# Altium integrated library Microchip Thermal Management.IntLib: 360 symbols (part 1 of 10)
Pins are listed as number, name and electrical type; pins without a type are passive.

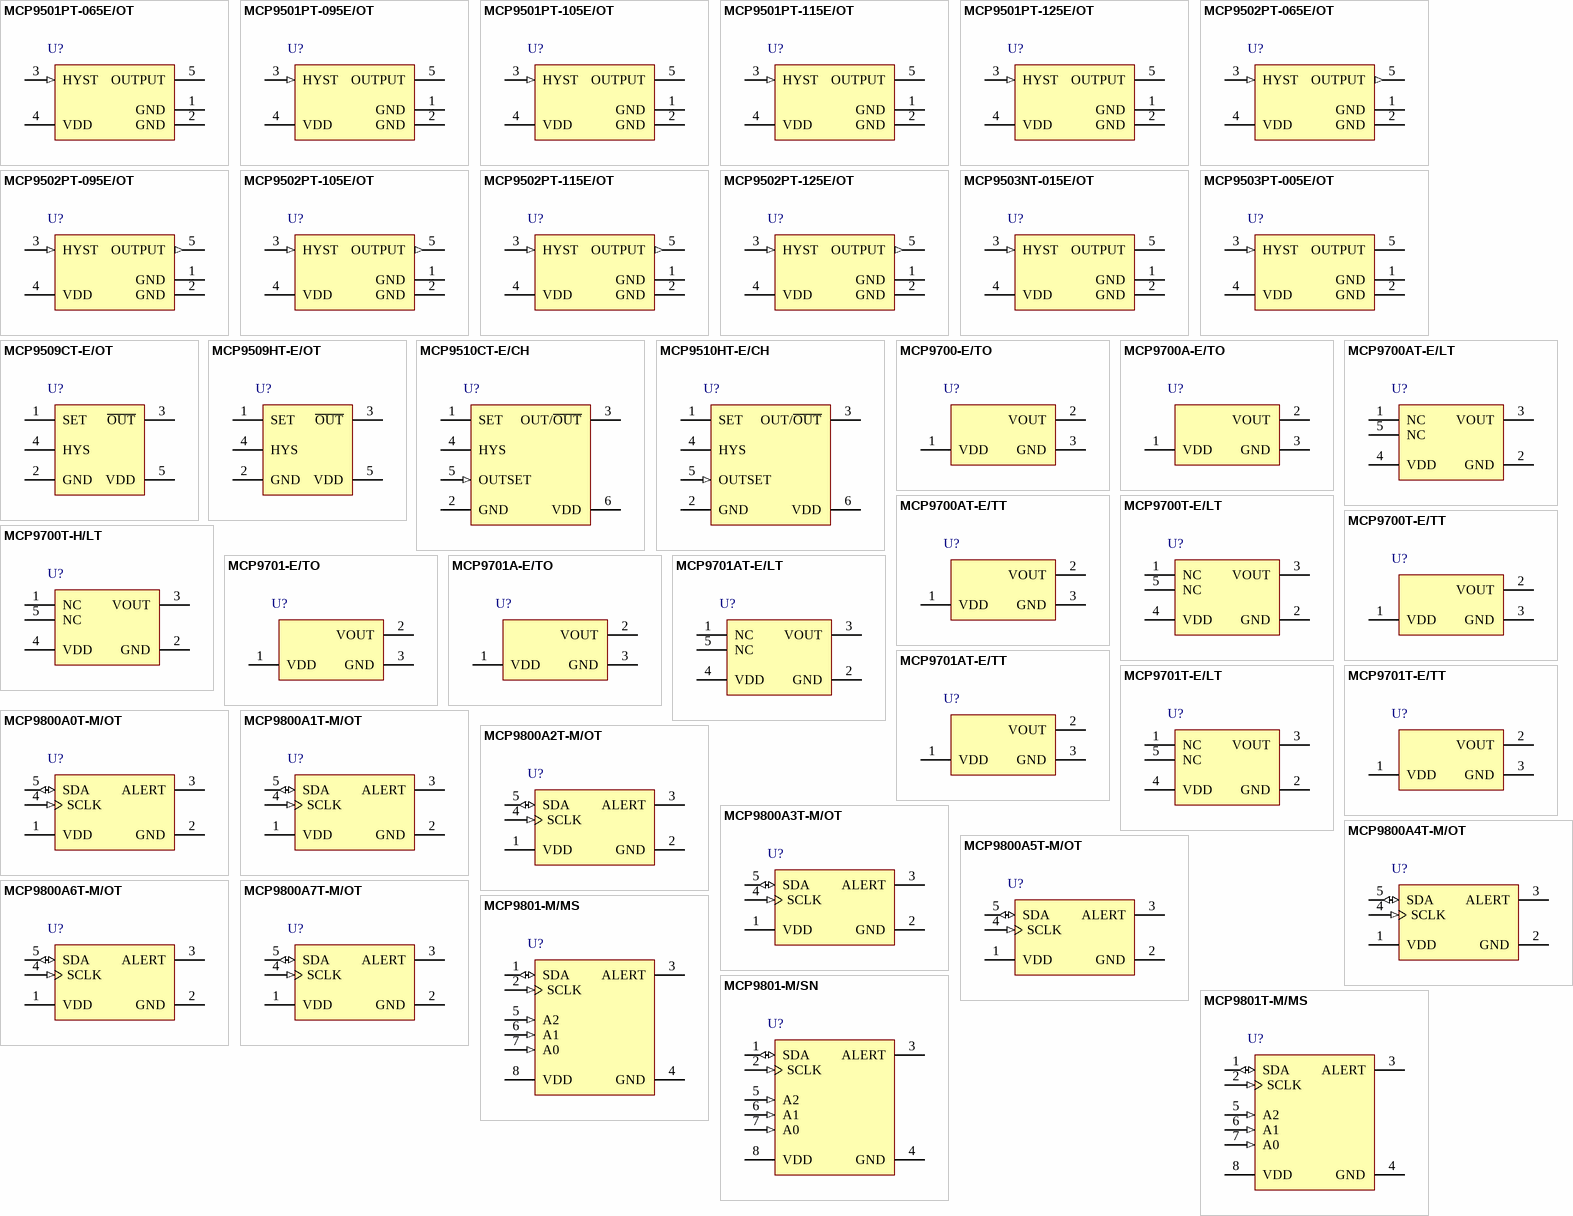
[diagram p0: symbols MCP9501PT-065E/OT to MCP9801T-M/MS]

## MCP9501PT-065E/OT
designator U?
Temperature Switch with Selectable Hysteresis, 1 deg Typical Accuracy, 2.7 to 5.5 V Operating Voltage, -40 to 125 degC, 5-pin SOT-23 (OT5), Tape and Reel; Manufacturer: Microchip; PartNumber: MCP9501PT-065E/OT; DatasheetVersion: Rev. A; PackageVersion: C04-091B; PackageReference: SOT-23-OT5; PackageDescription: 5-Lead Plastic Small Outline Transistor, 2.9 x 1.55 mm Body, 0.95 mm Pitch; Supplier 1: Digi-Key; Supplier Part Number 1: MCP9501PT-065E/OTTR-ND; Supplier 2: Digi-Key; Supplier Part Number 2: MCP9501PT-065E/OTCT-ND; Supplier 3: Digi-Key; Supplier Part Number 3: MCP9501PT-065E/OTDKR-ND; Supplier 4: Farnell; Supplier Part Number 4: 1925058; Supplier 5: Farnell; Supplier Part Number 5: 1925058RL; Supplier 6: Newark; Supplier Part Number 6: 91R2892; Supplier 7: Mouser; Supplier Part Number 7: 579-MCP9501PT065E/OT; Mounting Technology: Surface Mount; ComponentLink1Description: Manufacturer URL; ComponentLink1URL: http://www.microchip.com; ComponentLink2Description: Datasheet; ComponentLink2URL: http://ww1.microchip.com/downloads/en/DeviceDoc/22268a.pdf; ComponentLink3Description: Package Specification; ComponentLink3URL: http://www.microchip.com/stellent/groups/techpub_sg/documents/packagingspec/en012702.pdf; ComponentLink4Description: Product URL; ComponentLink4URL: http://www.microchip.com/MCP9501
footprint MCHP-SOT-23-OT5_N (SOT23, 5-Leads, Body 2.9x1.55mm, Pitch 0.95mm, IPC Medium Density)
footprint MCHP-SOT-23-OT5_L (SOT23, 5-Leads, Body 2.9x1.55mm, Pitch 0.95mm, IPC High Density)
footprint MCHP-SOT-23-OT5_M (SOT23, 5-Leads, Body 2.9x1.55mm, Pitch 0.95mm, IPC Low Density)
pins: 1 GND (power) "Ground", 2 GND (power) "Ground (must be connected to ground)", 3 HYST (in) "Hysteresis Selection Input: HYST = GND ? Hysteresis is 2degreesC (typical) HYST = VDD ? Hysteresis is 10degreesC (typical)", 4 VDD (power) "Power pin", 5 OUTPUT (oc) "Output Options:Open-Drain, Active-Low Output"

## MCP9501PT-095E/OT
designator U?
Temperature Switch with Selectable Hysteresis, 1 deg Typical Accuracy, 2.7 to 5.5 V Operating Voltage, -40 to 125 degC, 5-pin SOT-23 (OT5), Tape and Reel; Manufacturer: Microchip; PartNumber: MCP9501PT-095E/OT; DatasheetVersion: Rev. A; PackageVersion: C04-091B; PackageReference: SOT-23-OT5; PackageDescription: 5-Lead Plastic Small Outline Transistor, 2.9 x 1.55 mm Body, 0.95 mm Pitch; Supplier 1: Digi-Key; Supplier Part Number 1: MCP9501PT-095E/OTTR-ND; Supplier 2: Digi-Key; Supplier Part Number 2: MCP9501PT-095E/OTCT-ND; Supplier 3: Digi-Key; Supplier Part Number 3: MCP9501PT-095E/OTDKR-ND; Supplier 4: Farnell; Supplier Part Number 4: 1925059RL; Supplier 5: Farnell; Supplier Part Number 5: 1925059; Supplier 6: Newark; Supplier Part Number 6: 91R2893; Supplier 7: Mouser; Supplier Part Number 7: 579-MCP9501PT095E/OT; Mounting Technology: Surface Mount; ComponentLink1Description: Manufacturer URL; ComponentLink1URL: http://www.microchip.com; ComponentLink2Description: Datasheet; ComponentLink2URL: http://ww1.microchip.com/downloads/en/DeviceDoc/22268a.pdf; ComponentLink3Description: Package Specification; ComponentLink3URL: http://www.microchip.com/stellent/groups/techpub_sg/documents/packagingspec/en012702.pdf; ComponentLink4Description: Product URL; ComponentLink4URL: http://www.microchip.com/MCP9501
footprint MCHP-SOT-23-OT5_N (SOT23, 5-Leads, Body 2.9x1.55mm, Pitch 0.95mm, IPC Medium Density)
footprint MCHP-SOT-23-OT5_L (SOT23, 5-Leads, Body 2.9x1.55mm, Pitch 0.95mm, IPC High Density)
footprint MCHP-SOT-23-OT5_M (SOT23, 5-Leads, Body 2.9x1.55mm, Pitch 0.95mm, IPC Low Density)
pins: 1 GND (power) "Ground", 2 GND (power) "Ground (must be connected to ground)", 3 HYST (in) "Hysteresis Selection Input: HYST = GND ? Hysteresis is 2degreesC (typical) HYST = VDD ? Hysteresis is 10degreesC (typical)", 4 VDD (power) "Power pin", 5 OUTPUT (oc) "Output Options:Open-Drain, Active-Low Output"

## MCP9501PT-105E/OT
designator U?
Temperature Switch with Selectable Hysteresis, 1 deg Typical Accuracy, 2.7 to 5.5 V Operating Voltage, -40 to 125 degC, 5-pin SOT-23 (OT5), Tape and Reel; Manufacturer: Microchip; PartNumber: MCP9501PT-105E/OT; DatasheetVersion: Rev. A; PackageVersion: C04-091B; PackageReference: SOT-23-OT5; PackageDescription: 5-Lead Plastic Small Outline Transistor, 2.9 x 1.55 mm Body, 0.95 mm Pitch; Supplier 1: Digi-Key; Supplier Part Number 1: MCP9501PT-105E/OTTR-ND; Supplier 2: Digi-Key; Supplier Part Number 2: MCP9501PT-105E/OTCT-ND; Supplier 3: Digi-Key; Supplier Part Number 3: MCP9501PT-105E/OTDKR-ND; Supplier 4: Farnell; Supplier Part Number 4: 1925060; Supplier 5: Farnell; Supplier Part Number 5: 1925060RL; Supplier 6: Farnell; Supplier Part Number 6: 1902956; Supplier 7: Newark; Supplier Part Number 7: 91R2894; Supplier 8: Mouser; Supplier Part Number 8: 579-MCP9501PT105E/OT; Mounting Technology: Surface Mount; ComponentLink1Description: Manufacturer URL; ComponentLink1URL: http://www.microchip.com; ComponentLink2Description: Datasheet; ComponentLink2URL: http://ww1.microchip.com/downloads/en/DeviceDoc/22268a_Final.pdf; ComponentLink3Description: Package Specification; ComponentLink3URL: http://www.microchip.com/stellent/groups/techpub_sg/documents/packagingspec/en012702.pdf; ComponentLink4Description: Product URL; ComponentLink4URL: http://www.microchip.com/MCP9501
footprint MCHP-SOT-23-OT5_N (SOT23, 5-Leads, Body 2.9x1.55mm, Pitch 0.95mm, IPC Medium Density)
footprint MCHP-SOT-23-OT5_L (SOT23, 5-Leads, Body 2.9x1.55mm, Pitch 0.95mm, IPC High Density)
footprint MCHP-SOT-23-OT5_M (SOT23, 5-Leads, Body 2.9x1.55mm, Pitch 0.95mm, IPC Low Density)
pins: 1 GND (power) "Ground", 2 GND (power) "Ground (must be connected to ground)", 3 HYST (in) "Hysteresis Selection Input: HYST = GND ? Hysteresis is 2degreesC (typical) HYST = VDD ? Hysteresis is 10degreesC (typical)", 4 VDD (power) "Power pin", 5 OUTPUT (oc) "Output Options:Open-Drain, Active-Low Output"

## MCP9501PT-115E/OT
designator U?
Temperature Switch with Selectable Hysteresis, 1 deg Typical Accuracy, 2.7 to 5.5 V Operating Voltage, -40 to 125 degC, 5-pin SOT-23 (OT5), Tape and Reel; Manufacturer: Microchip; PartNumber: MCP9501PT-115E/OT; DatasheetVersion: Rev. A; PackageVersion: C04-091B; PackageReference: SOT-23-OT5; PackageDescription: 5-Lead Plastic Small Outline Transistor, 2.9 x 1.55 mm Body, 0.95 mm Pitch; Supplier 1: Digi-Key; Supplier Part Number 1: MCP9501PT-115E/OTTR-ND; Supplier 2: Digi-Key; Supplier Part Number 2: MCP9501PT-115E/OTCT-ND; Supplier 3: Digi-Key; Supplier Part Number 3: MCP9501PT-115E/OTDKR-ND; Supplier 4: Farnell; Supplier Part Number 4: 1925061RL; Supplier 5: Farnell; Supplier Part Number 5: 1925061; Supplier 6: Farnell; Supplier Part Number 6: 1902958; Supplier 7: Newark; Supplier Part Number 7: 91R2895; Supplier 8: Mouser; Supplier Part Number 8: 579-MCP9501PT115E/OT; Mounting Technology: Surface Mount; ComponentLink1Description: Manufacturer URL; ComponentLink1URL: http://www.microchip.com; ComponentLink2Description: Datasheet; ComponentLink2URL: http://ww1.microchip.com/downloads/en/DeviceDoc/22268a_Final.pdf; ComponentLink3Description: Package Specification; ComponentLink3URL: http://www.microchip.com/stellent/groups/techpub_sg/documents/packagingspec/en012702.pdf; ComponentLink4Description: Product URL; ComponentLink4URL: http://www.microchip.com/MCP9501
footprint MCHP-SOT-23-OT5_N (SOT23, 5-Leads, Body 2.9x1.55mm, Pitch 0.95mm, IPC Medium Density)
footprint MCHP-SOT-23-OT5_L (SOT23, 5-Leads, Body 2.9x1.55mm, Pitch 0.95mm, IPC High Density)
footprint MCHP-SOT-23-OT5_M (SOT23, 5-Leads, Body 2.9x1.55mm, Pitch 0.95mm, IPC Low Density)
pins: 1 GND (power) "Ground", 2 GND (power) "Ground (must be connected to ground)", 3 HYST (in) "Hysteresis Selection Input: HYST = GND ? Hysteresis is 2degreesC (typical) HYST = VDD ? Hysteresis is 10degreesC (typical)", 4 VDD (power) "Power pin", 5 OUTPUT (oc) "Output Options:Open-Drain, Active-Low Output"

## MCP9501PT-125E/OT
designator U?
Temperature Switch with Selectable Hysteresis, 1 deg Typical Accuracy, 2.7 to 5.5 V Operating Voltage, -40 to 125 degC, 5-pin SOT-23 (OT5), Tape and Reel; Manufacturer: Microchip; PartNumber: MCP9501PT-125E/OT; DatasheetVersion: Rev. A; PackageVersion: C04-091B; PackageReference: SOT-23-OT5; PackageDescription: 5-Lead Plastic Small Outline Transistor, 2.9 x 1.55 mm Body, 0.95 mm Pitch; Supplier 1: Digi-Key; Supplier Part Number 1: MCP9501PT-125E/OTTR-ND; Supplier 2: Digi-Key; Supplier Part Number 2: MCP9501PT-125E/OTCT-ND; Supplier 3: Digi-Key; Supplier Part Number 3: MCP9501PT-125E/OTDKR-ND; Supplier 4: Farnell; Supplier Part Number 4: 1925062RL; Supplier 5: Farnell; Supplier Part Number 5: 1925062; Supplier 6: Farnell; Supplier Part Number 6: 1902960; Supplier 7: Newark; Supplier Part Number 7: 91R2896; Supplier 8: Mouser; Supplier Part Number 8: 579-MCP9501PT125E/OT; Mounting Technology: Surface Mount; ComponentLink1Description: Manufacturer URL; ComponentLink1URL: http://www.microchip.com; ComponentLink2Description: Datasheet; ComponentLink2URL: http://ww1.microchip.com/downloads/en/DeviceDoc/22268a_Final.pdf; ComponentLink3Description: Package Specification; ComponentLink3URL: http://www.microchip.com/stellent/groups/techpub_sg/documents/packagingspec/en012702.pdf; ComponentLink4Description: Product URL; ComponentLink4URL: http://www.microchip.com/MCP9501
footprint MCHP-SOT-23-OT5_N (SOT23, 5-Leads, Body 2.9x1.55mm, Pitch 0.95mm, IPC Medium Density)
footprint MCHP-SOT-23-OT5_L (SOT23, 5-Leads, Body 2.9x1.55mm, Pitch 0.95mm, IPC High Density)
footprint MCHP-SOT-23-OT5_M (SOT23, 5-Leads, Body 2.9x1.55mm, Pitch 0.95mm, IPC Low Density)
pins: 1 GND (power) "Ground", 2 GND (power) "Ground (must be connected to ground)", 3 HYST (in) "Hysteresis Selection Input: HYST = GND ? Hysteresis is 2degreesC (typical) HYST = VDD ? Hysteresis is 10degreesC (typical)", 4 VDD (power) "Power pin", 5 OUTPUT (oc) "Output Options:Open-Drain, Active-Low Output"

## MCP9502PT-065E/OT
designator U?
Temperature Switch with Selectable Hysteresis, 1 deg Typical Accuracy, 2.7 to 5.5 V Operating Voltage, -40 to 125 degC, 5-pin SOT-23 (OT5), Tape and Reel; Manufacturer: Microchip; PartNumber: MCP9502PT-065E/OT; DatasheetVersion: Rev. A; PackageVersion: C04-091B; PackageReference: SOT-23-OT5; PackageDescription: 5-Lead Plastic Small Outline Transistor, 2.9 x 1.55 mm Body, 0.95 mm Pitch; Supplier 1: Digi-Key; Supplier Part Number 1: MCP9502PT-065E/OTTR-ND; Supplier 2: Digi-Key; Supplier Part Number 2: MCP9502PT-065E/OTCT-ND; Supplier 3: Digi-Key; Supplier Part Number 3: MCP9502PT-065E/OTDKR-ND; Supplier 4: Farnell; Supplier Part Number 4: 1925063RL; Supplier 5: Farnell; Supplier Part Number 5: 1925063; Supplier 6: Newark; Supplier Part Number 6: 91R2897; Supplier 7: Mouser; Supplier Part Number 7: 579-MCP9502PT065E/OT; Mounting Technology: Surface Mount; ComponentLink1Description: Manufacturer URL; ComponentLink1URL: http://www.microchip.com; ComponentLink2Description: Datasheet; ComponentLink2URL: http://ww1.microchip.com/downloads/en/DeviceDoc/22268a.pdf; ComponentLink3Description: Package Specification; ComponentLink3URL: http://www.microchip.com/stellent/groups/techpub_sg/documents/packagingspec/en012702.pdf; ComponentLink4Description: Product URL; ComponentLink4URL: http://www.microchip.com/MCP9502
footprint MCHP-SOT-23-OT5_N (SOT23, 5-Leads, Body 2.9x1.55mm, Pitch 0.95mm, IPC Medium Density)
footprint MCHP-SOT-23-OT5_L (SOT23, 5-Leads, Body 2.9x1.55mm, Pitch 0.95mm, IPC High Density)
footprint MCHP-SOT-23-OT5_M (SOT23, 5-Leads, Body 2.9x1.55mm, Pitch 0.95mm, IPC Low Density)
pins: 1 GND (power) "Ground", 2 GND (power) "Ground (must be connected to ground)", 3 HYST (in) "Hysteresis Selection Input: HYST = GND ? Hysteresis is 2degreesC (typical) HYST = VDD ? Hysteresis is 10degreesC (typical)", 4 VDD (power) "Power pin", 5 OUTPUT (out) "Output Options:Push-Pull, Active-High Output (Hot-Option)"

## MCP9502PT-095E/OT
designator U?
Temperature Switch with Selectable Hysteresis, 1 deg Typical Accuracy, 2.7 to 5.5 V Operating Voltage, -40 to 125 degC, 5-pin SOT-23 (OT5), Tape and Reel; Manufacturer: Microchip; PartNumber: MCP9502PT-095E/OT; DatasheetVersion: Rev. A; PackageVersion: C04-091B; PackageReference: SOT-23-OT5; PackageDescription: 5-Lead Plastic Small Outline Transistor, 2.9 x 1.55 mm Body, 0.95 mm Pitch; Supplier 1: Digi-Key; Supplier Part Number 1: MCP9502PT-095E/OTTR-ND; Supplier 2: Digi-Key; Supplier Part Number 2: MCP9502PT-095E/OTCT-ND; Supplier 3: Digi-Key; Supplier Part Number 3: MCP9502PT-095E/OTDKR-ND; Supplier 4: Farnell; Supplier Part Number 4: 1925065; Supplier 5: Farnell; Supplier Part Number 5: 1925065RL; Supplier 6: Newark; Supplier Part Number 6: 91R2898; Supplier 7: Mouser; Supplier Part Number 7: 579-MCP9502PT095E/OT; Mounting Technology: Surface Mount; ComponentLink1Description: Manufacturer URL; ComponentLink1URL: http://www.microchip.com; ComponentLink2Description: Datasheet; ComponentLink2URL: http://ww1.microchip.com/downloads/en/DeviceDoc/22268a_Final.pdf; ComponentLink3Description: Package Specification; ComponentLink3URL: http://www.microchip.com/stellent/groups/techpub_sg/documents/packagingspec/en012702.pdf; ComponentLink4Description: Product URL; ComponentLink4URL: http://www.microchip.com/MCP9502
footprint MCHP-SOT-23-OT5_N (SOT23, 5-Leads, Body 2.9x1.55mm, Pitch 0.95mm, IPC Medium Density)
footprint MCHP-SOT-23-OT5_L (SOT23, 5-Leads, Body 2.9x1.55mm, Pitch 0.95mm, IPC High Density)
footprint MCHP-SOT-23-OT5_M (SOT23, 5-Leads, Body 2.9x1.55mm, Pitch 0.95mm, IPC Low Density)
pins: 1 GND (power) "Ground", 2 GND (power) "Ground (must be connected to ground)", 3 HYST (in) "Hysteresis Selection Input: HYST = GND ? Hysteresis is 2degreesC (typical) HYST = VDD ? Hysteresis is 10degreesC (typical)", 4 VDD (power) "Power pin", 5 OUTPUT (out) "Output Options:Push-Pull, Active-High Output (Hot-Option)"

## MCP9502PT-105E/OT
designator U?
Temperature Switch with Selectable Hysteresis, 1 deg Typical Accuracy, 2.7 to 5.5 V Operating Voltage, -40 to 125 degC, 5-pin SOT-23 (OT5), Tape and Reel; Manufacturer: Microchip; PartNumber: MCP9502PT-105E/OT; DatasheetVersion: Rev. A; PackageVersion: C04-091B; PackageReference: SOT-23-OT5; PackageDescription: 5-Lead Plastic Small Outline Transistor, 2.9 x 1.55 mm Body, 0.95 mm Pitch; Supplier 1: Digi-Key; Supplier Part Number 1: MCP9502PT-105E/OTTR-ND; Supplier 2: Digi-Key; Supplier Part Number 2: MCP9502PT-105E/OTCT-ND; Supplier 3: Digi-Key; Supplier Part Number 3: MCP9502PT-105E/OTDKR-ND; Supplier 4: Farnell; Supplier Part Number 4: 1925066; Supplier 5: Farnell; Supplier Part Number 5: 1925066RL; Supplier 6: Farnell; Supplier Part Number 6: 1903381; Supplier 7: Newark; Supplier Part Number 7: 91R2899; Supplier 8: Mouser; Supplier Part Number 8: 579-MCP9502PT105E/OT; Mounting Technology: Surface Mount; ComponentLink1Description: Manufacturer URL; ComponentLink1URL: http://www.microchip.com; ComponentLink2Description: Datasheet; ComponentLink2URL: http://ww1.microchip.com/downloads/en/DeviceDoc/22268a_Final.pdf; ComponentLink3Description: Package Specification; ComponentLink3URL: http://www.microchip.com/stellent/groups/techpub_sg/documents/packagingspec/en012702.pdf; ComponentLink4Description: Product URL; ComponentLink4URL: http://www.microchip.com/MCP9502
footprint MCHP-SOT-23-OT5_N (SOT23, 5-Leads, Body 2.9x1.55mm, Pitch 0.95mm, IPC Medium Density)
footprint MCHP-SOT-23-OT5_L (SOT23, 5-Leads, Body 2.9x1.55mm, Pitch 0.95mm, IPC High Density)
footprint MCHP-SOT-23-OT5_M (SOT23, 5-Leads, Body 2.9x1.55mm, Pitch 0.95mm, IPC Low Density)
pins: 1 GND (power) "Ground", 2 GND (power) "Ground (must be connected to ground)", 3 HYST (in) "Hysteresis Selection Input: HYST = GND ? Hysteresis is 2degreesC (typical) HYST = VDD ? Hysteresis is 10degreesC (typical)", 4 VDD (power) "Power pin", 5 OUTPUT (out) "Output Options:Push-Pull, Active-High Output (Hot-Option)"

## MCP9502PT-115E/OT
designator U?
Temperature Switch with Selectable Hysteresis, 1 deg Typical Accuracy, 2.7 to 5.5 V Operating Voltage, -40 to 125 degC, 5-pin SOT-23 (OT5), Tape and Reel; Manufacturer: Microchip; PartNumber: MCP9502PT-115E/OT; DatasheetVersion: Rev. A; PackageVersion: C04-091B; PackageReference: SOT-23-OT5; PackageDescription: 5-Lead Plastic Small Outline Transistor, 2.9 x 1.55 mm Body, 0.95 mm Pitch; Supplier 1: Digi-Key; Supplier Part Number 1: MCP9502PT-115E/OTTR-ND; Supplier 2: Digi-Key; Supplier Part Number 2: MCP9502PT-115E/OTCT-ND; Supplier 3: Digi-Key; Supplier Part Number 3: MCP9502PT-115E/OTDKR-ND; Supplier 4: Farnell; Supplier Part Number 4: 1925067; Supplier 5: Farnell; Supplier Part Number 5: 1925067RL; Supplier 6: Farnell; Supplier Part Number 6: 1903382; Supplier 7: Newark; Supplier Part Number 7: 91R2900; Supplier 8: Mouser; Supplier Part Number 8: 579-MCP9502PT115E/OT; Mounting Technology: Surface Mount; ComponentLink1Description: Manufacturer URL; ComponentLink1URL: http://www.microchip.com; ComponentLink2Description: Datasheet; ComponentLink2URL: http://ww1.microchip.com/downloads/en/DeviceDoc/22268a_Final.pdf; ComponentLink3Description: Package Specification; ComponentLink3URL: http://www.microchip.com/stellent/groups/techpub_sg/documents/packagingspec/en012702.pdf; ComponentLink4Description: Product URL; ComponentLink4URL: http://www.microchip.com/MCP9502
footprint MCHP-SOT-23-OT5_N (SOT23, 5-Leads, Body 2.9x1.55mm, Pitch 0.95mm, IPC Medium Density)
footprint MCHP-SOT-23-OT5_L (SOT23, 5-Leads, Body 2.9x1.55mm, Pitch 0.95mm, IPC High Density)
footprint MCHP-SOT-23-OT5_M (SOT23, 5-Leads, Body 2.9x1.55mm, Pitch 0.95mm, IPC Low Density)
pins: 1 GND (power) "Ground", 2 GND (power) "Ground (must be connected to ground)", 3 HYST (in) "Hysteresis Selection Input: HYST = GND ? Hysteresis is 2degreesC (typical) HYST = VDD ? Hysteresis is 10degreesC (typical)", 4 VDD (power) "Power pin", 5 OUTPUT (out) "Output Options:Push-Pull, Active-High Output (Hot-Option)"

## MCP9502PT-125E/OT
designator U?
Temperature Switch with Selectable Hysteresis, 1 deg Typical Accuracy, 2.7 to 5.5 V Operating Voltage, -40 to 125 degC, 5-pin SOT-23 (OT5), Tape and Reel; Manufacturer: Microchip; PartNumber: MCP9502PT-125E/OT; DatasheetVersion: Rev. A; PackageVersion: C04-091B; PackageReference: SOT-23-OT5; PackageDescription: 5-Lead Plastic Small Outline Transistor, 2.9 x 1.55 mm Body, 0.95 mm Pitch; Supplier 1: Digi-Key; Supplier Part Number 1: MCP9502PT-125E/OTTR-ND; Supplier 2: Digi-Key; Supplier Part Number 2: MCP9502PT-125E/OTCT-ND; Supplier 3: Digi-Key; Supplier Part Number 3: MCP9502PT-125E/OTDKR-ND; Supplier 4: Farnell; Supplier Part Number 4: 1925068RL; Supplier 5: Farnell; Supplier Part Number 5: 1925068; Supplier 6: Farnell; Supplier Part Number 6: 1903383; Supplier 7: Newark; Supplier Part Number 7: 91R2901; Supplier 8: Mouser; Supplier Part Number 8: 579-MCP9502PT125E/OT; Mounting Technology: Surface Mount; ComponentLink1Description: Manufacturer URL; ComponentLink1URL: http://www.microchip.com; ComponentLink2Description: Datasheet; ComponentLink2URL: http://ww1.microchip.com/downloads/en/DeviceDoc/22268a.pdf; ComponentLink3Description: Package Specification; ComponentLink3URL: http://www.microchip.com/stellent/groups/techpub_sg/documents/packagingspec/en012702.pdf; ComponentLink4Description: Product URL; ComponentLink4URL: http://www.microchip.com/MCP9502
footprint MCHP-SOT-23-OT5_N (SOT23, 5-Leads, Body 2.9x1.55mm, Pitch 0.95mm, IPC Medium Density)
footprint MCHP-SOT-23-OT5_L (SOT23, 5-Leads, Body 2.9x1.55mm, Pitch 0.95mm, IPC High Density)
footprint MCHP-SOT-23-OT5_M (SOT23, 5-Leads, Body 2.9x1.55mm, Pitch 0.95mm, IPC Low Density)
pins: 1 GND (power) "Ground", 2 GND (power) "Ground (must be connected to ground)", 3 HYST (in) "Hysteresis Selection Input: HYST = GND ? Hysteresis is 2degreesC (typical) HYST = VDD ? Hysteresis is 10degreesC (typical)", 4 VDD (power) "Power pin", 5 OUTPUT (out) "Output Options:Push-Pull, Active-High Output (Hot-Option)"

## MCP9503NT-015E/OT
designator U?
Temperature Switch with Selectable Hysteresis, 1 deg Typical Accuracy, 2.7 to 5.5 V Operating Voltage, -40 to 125 degC, 5-pin SOT-23 (OT5), Tape and Reel; Manufacturer: Microchip; PartNumber: MCP9503NT-015E/OT; DatasheetVersion: Rev. A; PackageVersion: C04-091B; PackageReference: SOT-23-OT5; PackageDescription: 5-Lead Plastic Small Outline Transistor, 2.9 x 1.55 mm Body, 0.95 mm Pitch; Supplier 1: Digi-Key; Supplier Part Number 1: MCP9503NT-015E/OTTR-ND; Supplier 2: Digi-Key; Supplier Part Number 2: MCP9503NT-015E/OTCT-ND; Supplier 3: Digi-Key; Supplier Part Number 3: MCP9503NT-015E/OTDKR-ND; Supplier 4: Farnell; Supplier Part Number 4: 1925069; Supplier 5: Farnell; Supplier Part Number 5: 1925069RL; Supplier 6: Farnell; Supplier Part Number 6: 1903384; Supplier 7: Newark; Supplier Part Number 7: 91R2902; Supplier 8: Mouser; Supplier Part Number 8: 579-MCP9503NT015E/OT; Mounting Technology: Surface Mount; ComponentLink1Description: Manufacturer URL; ComponentLink1URL: http://www.microchip.com; ComponentLink2Description: Datasheet; ComponentLink2URL: http://ww1.microchip.com/downloads/en/DeviceDoc/22268a_Final.pdf; ComponentLink3Description: Package Specification; ComponentLink3URL: http://www.microchip.com/stellent/groups/techpub_sg/documents/packagingspec/en012702.pdf; ComponentLink4Description: Product URL; ComponentLink4URL: http://www.microchip.com/MCP9503
footprint MCHP-SOT-23-OT5_N (SOT23, 5-Leads, Body 2.9x1.55mm, Pitch 0.95mm, IPC Medium Density)
footprint MCHP-SOT-23-OT5_L (SOT23, 5-Leads, Body 2.9x1.55mm, Pitch 0.95mm, IPC High Density)
footprint MCHP-SOT-23-OT5_M (SOT23, 5-Leads, Body 2.9x1.55mm, Pitch 0.95mm, IPC Low Density)
pins: 1 GND (power) "Ground", 2 GND (power) "Ground (must be connected to ground)", 3 HYST (in) "Hysteresis Selection Input: HYST = GND ? Hysteresis is 2degreesC (typical) HYST = VDD ? Hysteresis is 10degreesC (typical)", 4 VDD (power) "Power pin", 5 OUTPUT (oc) "Output Options:Open-Drain, Active-Low Output"

## MCP9503PT-005E/OT
designator U?
Temperature Switch with Selectable Hysteresis, 1 deg Typical Accuracy, 2.7 to 5.5 V Operating Voltage, -40 to 125 degC, 5-pin SOT-23 (OT5), Tape and Reel; Manufacturer: Microchip; PartNumber: MCP9503PT-005E/OT; DatasheetVersion: Rev. A; PackageVersion: C04-091B; PackageReference: SOT-23-OT5; PackageDescription: 5-Lead Plastic Small Outline Transistor, 2.9 x 1.55 mm Body, 0.95 mm Pitch; Supplier 1: Digi-Key; Supplier Part Number 1: MCP9503PT-005E/OTTR-ND; Supplier 2: Digi-Key; Supplier Part Number 2: MCP9503PT-005E/OTCT-ND; Supplier 3: Digi-Key; Supplier Part Number 3: MCP9503PT-005E/OTDKR-ND; Supplier 4: Farnell; Supplier Part Number 4: 1925070RL; Supplier 5: Farnell; Supplier Part Number 5: 1925070; Supplier 6: Farnell; Supplier Part Number 6: 1903385; Supplier 7: Newark; Supplier Part Number 7: 91R2903; Supplier 8: Mouser; Supplier Part Number 8: 579-MCP9503PT005E/OT; Mounting Technology: Surface Mount; ComponentLink1Description: Manufacturer URL; ComponentLink1URL: http://www.microchip.com; ComponentLink2Description: Datasheet; ComponentLink2URL: http://ww1.microchip.com/downloads/en/DeviceDoc/22268a.pdf; ComponentLink3Description: Package Specification; ComponentLink3URL: http://www.microchip.com/stellent/groups/techpub_sg/documents/packagingspec/en012702.pdf; ComponentLink4Description: Product URL; ComponentLink4URL: http://www.microchip.com/MCP9503
footprint MCHP-SOT-23-OT5_N (SOT23, 5-Leads, Body 2.9x1.55mm, Pitch 0.95mm, IPC Medium Density)
footprint MCHP-SOT-23-OT5_L (SOT23, 5-Leads, Body 2.9x1.55mm, Pitch 0.95mm, IPC High Density)
footprint MCHP-SOT-23-OT5_M (SOT23, 5-Leads, Body 2.9x1.55mm, Pitch 0.95mm, IPC Low Density)
pins: 1 GND (power) "Ground", 2 GND (power) "Ground (must be connected to ground)", 3 HYST (in) "Hysteresis Selection Input: HYST = GND ? Hysteresis is 2degreesC (typical) HYST = VDD ? Hysteresis is 10degreesC (typical)", 4 VDD (power) "Power pin", 5 OUTPUT (oc) "Output Options:Open-Drain, Active-Low Output"

## MCP9509CT-E/OT
designator U?
Resistor-Programmable Temperature Switch, Hot to Cold, 5-Pin SOT-23, Extended Temperature, Tape and Reel; Manufacturer: Microchip; PartNumber: MCP9509CT-E/OT; DatasheetVersion: revA, Nov-2008; PackageVersion: revBB, Aug-2009; PackageReference: SOT-23-OT5; PackageDescription: 5-Lead Plastic Small Outline Transistor (OT) [SOT-23]; Supplier 1: Digi-Key; Supplier Part Number 1: MCP9509CT-E/OTTR-ND; Supplier 2: Digi-Key; Supplier Part Number 2: MCP9509CT-E/OTCT-ND; Supplier 3: Digi-Key; Supplier Part Number 3: MCP9509CT-E/OTDKR-ND; Supplier 4: Newark; Supplier Part Number 4: 45P4731; Supplier 5: Mouser; Supplier Part Number 5: 579-MCP9509TC-E/OT; Mounting Technology: Surface Mount; Code_IPC: SOT23-5; ComponentLink1Description: Manufacturer URL; ComponentLink1URL: http://www.microchip.com/; ComponentLink2Description: Datasheet; ComponentLink2URL: http://ww1.microchip.com/downloads/en/DeviceDoc/22114a.pdf; ComponentLink3Description: Package Specification; ComponentLink3URL: http://www.microchip.com/stellent/groups/techpub_sg/documents/packagingspec/en012702.pdf
footprint SOT-23-OT5_N (SOT23, 5-Leads, Body 2.9x1.6mm, Pitch 0.95mm, Lead Span 2.7mm, IPC Medium Density)
footprint SOT-23-OT5_L (SOT23, 5-Leads, Body 2.9x1.6mm, Pitch 0.95mm, Lead Span 2.7mm, IPC High Density)
footprint SOT-23-OT5_M (SOT23, 5-Leads, Body 2.9x1.6mm, Pitch 0.95mm, Lead Span 2.7mm, IPC Low Density)
pins: 1 SET, 2 GND (power), 3 ~{OUT} (oc), 4 HYS, 5 VDD (power)

## MCP9509HT-E/OT
designator U?
Resistor-Programmable Temperature Switch, Cold to Hot, 5-Pin SOT-23, Extended Temperature, Tape and Reel; Manufacturer: Microchip; PartNumber: MCP9509HT-E/OT; DatasheetVersion: revA, Nov-2008; PackageVersion: revBB, Aug-2009; PackageReference: SOT-23-OT5; PackageDescription: 5-Lead Plastic Small Outline Transistor (OT) [SOT-23]; Supplier 1: Digi-Key; Supplier Part Number 1: MCP9509HT-E/OTTR-ND; Supplier 2: Digi-Key; Supplier Part Number 2: MCP9509HT-E/OTCT-ND; Supplier 3: Digi-Key; Supplier Part Number 3: MCP9509HT-E/OTDKR-ND; Supplier 4: Farnell; Supplier Part Number 4: 1690409RL; Supplier 5: Farnell; Supplier Part Number 5: 1690409; Supplier 6: Newark; Supplier Part Number 6: 45P4732; Supplier 7: Mouser; Supplier Part Number 7: 579-MCP9509HTEOT; Mounting Technology: Surface Mount; Code_IPC: SOT23-5; ComponentLink1Description: Manufacturer URL; ComponentLink1URL: http://www.microchip.com/; ComponentLink2Description: Datasheet; ComponentLink2URL: http://ww1.microchip.com/downloads/en/DeviceDoc/22114a.pdf; ComponentLink3Description: Package Specification; ComponentLink3URL: http://www.microchip.com/stellent/groups/techpub_sg/documents/packagingspec/en012702.pdf
footprint SOT-23-OT5_N (SOT23, 5-Leads, Body 2.9x1.6mm, Pitch 0.95mm, Lead Span 2.7mm, IPC Medium Density)
footprint SOT-23-OT5_L (SOT23, 5-Leads, Body 2.9x1.6mm, Pitch 0.95mm, Lead Span 2.7mm, IPC High Density)
footprint SOT-23-OT5_M (SOT23, 5-Leads, Body 2.9x1.6mm, Pitch 0.95mm, Lead Span 2.7mm, IPC Low Density)
pins: 1 SET, 2 GND (power), 3 ~{OUT} (oc), 4 HYS, 5 VDD (power)

## MCP9510CT-E/CH
designator U?
Resistor-Programmable Temperature Switch, Hot to Cold, 6-Pin SOT-23, Extended Temperature, Tape and Reel; Manufacturer: Microchip; PartNumber: MCP9510CT-E/CH; DatasheetVersion: revA, Nov-2008; PackageVersion: revBB, Aug-2009; PackageReference: SOT-23-CH6; PackageDescription: 6-Lead Plastic Small Outline Transistor (CH) [SOT-23]; Supplier 1: Digi-Key; Supplier Part Number 1: MCP9510CT-E/CHTR-ND; Supplier 2: Digi-Key; Supplier Part Number 2: MCP9510CT-E/CHCT-ND; Supplier 3: Digi-Key; Supplier Part Number 3: MCP9510CT-E/CHDKR-ND; Supplier 4: Farnell; Supplier Part Number 4: 1690410; Supplier 5: Farnell; Supplier Part Number 5: 1690410RL; Supplier 6: Newark; Supplier Part Number 6: 45P4733; Supplier 7: Mouser; Supplier Part Number 7: 579-MCP9510TC-E/CH; Mounting Technology: Surface Mount; Code_IPC: SOT26A-6; ComponentLink1Description: Manufacturer URL; ComponentLink1URL: http://www.microchip.com/; ComponentLink2Description: Datasheet; ComponentLink2URL: http://ww1.microchip.com/downloads/en/DeviceDoc/22114a.pdf; ComponentLink3Description: Package Specification; ComponentLink3URL: http://www.microchip.com/stellent/groups/techpub_sg/documents/packagingspec/en012702.pdf
footprint SOT-23-CH6_N (SOT23, 6-Leads, Body 2.9x1.6mm, Pitch 0.95mm, Lead Span 2.7mm, IPC Medium Density)
footprint SOT-23-CH6_L (SOT23, 6-Leads, Body 2.9x1.6mm, Pitch 0.95mm, Lead Span 2.7mm, IPC High Density)
footprint SOT-23-CH6_M (SOT23, 6-Leads, Body 2.9x1.6mm, Pitch 0.95mm, Lead Span 2.7mm, IPC Low Density)
pins: 1 SET, 2 GND (power), 3 OUT/~{OUT} (oc), 4 HYS, 5 OUTSET (in), 6 VDD (power)

## MCP9510HT-E/CH
designator U?
Resistor-Programmable Temperature Switch, Cold to Hot, 6-Pin SOT-23, Extended Temperature, Tape and Reel; Manufacturer: Microchip; PartNumber: MCP9510HT-E/CH; DatasheetVersion: revA, Nov-2008; PackageVersion: revBB, Aug-2009; PackageReference: SOT-23-CH6; PackageDescription: 6-Lead Plastic Small Outline Transistor (CH) [SOT-23]; Supplier 1: Digi-Key; Supplier Part Number 1: MCP9510HT-E/CHTR-ND; Supplier 2: Digi-Key; Supplier Part Number 2: MCP9510HT-E/CHCT-ND; Supplier 3: Digi-Key; Supplier Part Number 3: MCP9510HT-E/CHDKR-ND; Supplier 4: Farnell; Supplier Part Number 4: 1690411; Supplier 5: Farnell; Supplier Part Number 5: 1690411RL; Supplier 6: Newark; Supplier Part Number 6: 45P4734; Supplier 7: Mouser; Supplier Part Number 7: 579-MCP9510TH-E/CH; Mounting Technology: Surface Mount; Code_IPC: SOT26A-6; ComponentLink1Description: Manufacturer URL; ComponentLink1URL: http://www.microchip.com/; ComponentLink2Description: Datasheet; ComponentLink2URL: http://ww1.microchip.com/downloads/en/DeviceDoc/22114a.pdf; ComponentLink3Description: Package Specification; ComponentLink3URL: http://www.microchip.com/stellent/groups/techpub_sg/documents/packagingspec/en012702.pdf
footprint SOT-23-CH6_N (SOT23, 6-Leads, Body 2.9x1.6mm, Pitch 0.95mm, Lead Span 2.7mm, IPC Medium Density)
footprint SOT-23-CH6_L (SOT23, 6-Leads, Body 2.9x1.6mm, Pitch 0.95mm, Lead Span 2.7mm, IPC High Density)
footprint SOT-23-CH6_M (SOT23, 6-Leads, Body 2.9x1.6mm, Pitch 0.95mm, Lead Span 2.7mm, IPC Low Density)
pins: 1 SET, 2 GND (power), 3 OUT/~{OUT} (oc), 4 HYS, 5 OUTSET (in), 6 VDD (power)

## MCP9700-E/TO
designator U?
Low-Power Linear Active Thermistor IC, 3-Pin TO-92, Extended Temperature; Manufacturer: Microchip; PartNumber: MCP9700-E/TO; DatasheetVersion: revE, Apr-2009; PackageVersion: revBB, Aug-2009; PackageReference: TO-92-TO3; PackageDescription: 3-Lead Plastic Transistor Outline (TO) [TO-92]; Supplier 1: Digi-Key; Supplier Part Number 1: MCP9700-E/TO-ND; Supplier 2: Farnell; Supplier Part Number 2: 1332166; Supplier 3: Newark; Supplier Part Number 3: 16M5162; Supplier 4: Mouser; Supplier Part Number 4: 579-MCP9700-E/TO; Mounting Technology: Through Hole; ComponentLink1Description: Manufacturer URL; ComponentLink1URL: http://www.microchip.com/; ComponentLink2Description: Datasheet; ComponentLink2URL: http://ww1.microchip.com/downloads/en/DeviceDoc/21942e.pdf; ComponentLink3Description: Package Specification; ComponentLink3URL: http://www.microchip.com/stellent/groups/techpub_sg/documents/packagingspec/en012702.pdf
footprint TO-92-TO3 (TO, Flat Index; 3 In-Line, Axial Leads; Body Dia. 4.8mm; Leads 0.56 x 0.53 mm (max))
pins: 1 VDD (power), 2 VOUT (power), 3 GND (power)

## MCP9700A-E/TO
designator U?
Low-Power Linear Active Thermistor IC, 3-Pin TO-92, Extended Temperature; Manufacturer: Microchip; PartNumber: MCP9700A-E/TO; DatasheetVersion: revE, Apr-2009; PackageVersion: revBB, Aug-2009; PackageReference: TO-92-TO3; PackageDescription: 3-Lead Plastic Transistor Outline (TO) [TO-92]; Supplier 1: Digi-Key; Supplier Part Number 1: MCP9700A-E/TO-ND; Supplier 2: Farnell; Supplier Part Number 2: 1332164; Supplier 3: Newark; Supplier Part Number 3: 17M0676; Supplier 4: Mouser; Supplier Part Number 4: 579-MCP9700A-E/TO; Mounting Technology: Through Hole; ComponentLink1Description: Manufacturer URL; ComponentLink1URL: http://www.microchip.com/; ComponentLink2Description: Datasheet; ComponentLink2URL: http://ww1.microchip.com/downloads/en/DeviceDoc/21942e.pdf; ComponentLink3Description: Package Specification; ComponentLink3URL: http://www.microchip.com/stellent/groups/techpub_sg/documents/packagingspec/en012702.pdf
footprint TO-92-TO3 (TO, Flat Index; 3 In-Line, Axial Leads; Body Dia. 4.8mm; Leads 0.56 x 0.53 mm (max))
pins: 1 VDD (power), 2 VOUT (power), 3 GND (power)

## MCP9700AT-E/LT
designator U?
Low-Power Linear Active Thermistor IC, 5-Pin SC-70, Extended Temperature, Tape and Reel; Manufacturer: Microchip; PartNumber: MCP9700AT-E/LT; DatasheetVersion: revE, Apr-2009; PackageVersion: revBB, Aug-2009; PackageReference: SC70-LT5; PackageDescription: 5-Lead Plastic Small Outline Transistor (LT) [SC70]; Supplier 1: Digi-Key; Supplier Part Number 1: MCP9700AT-E/LTTR-ND; Supplier 2: Digi-Key; Supplier Part Number 2: MCP9700AT-E/LTCT-ND; Supplier 3: Digi-Key; Supplier Part Number 3: MCP9700AT-E/LTDKR-ND; Supplier 4: Farnell; Supplier Part Number 4: 1332165RL; Supplier 5: Farnell; Supplier Part Number 5: 1332165; Supplier 6: Newark; Supplier Part Number 6: 84R6272; Supplier 7: Newark; Supplier Part Number 7: 88K5691; Supplier 8: Mouser; Supplier Part Number 8: 579-MCP9700AT-E/LT; Mounting Technology: Surface Mount; Code_IPC: SOT353-5; ComponentLink1Description: Manufacturer URL; ComponentLink1URL: http://www.microchip.com/; ComponentLink2Description: Datasheet; ComponentLink2URL: http://ww1.microchip.com/downloads/en/DeviceDoc/21942e.pdf; ComponentLink3Description: Package Specification; ComponentLink3URL: http://www.microchip.com/stellent/groups/techpub_sg/documents/packagingspec/en012702.pdf
footprint SC70-LT5_N (SOT353, 5-Leads, Body 2x1.3mm, Pitch 0.65mm, Lead Span 2.1mm, IPC Medium Density)
footprint SC70-LT5_L (SOT353, 5-Leads, Body 2x1.3mm, Pitch 0.65mm, Lead Span 2.1mm, IPC High Density)
footprint SC70-LT5_M (SOT353, 5-Leads, Body 2x1.3mm, Pitch 0.65mm, Lead Span 2.1mm, IPC Low Density)
pins: 1 NC, 2 GND (power), 3 VOUT (power), 4 VDD (power), 5 NC

## MCP9700AT-E/TT
designator U?
Low-Power Linear Active Thermistor IC, 3-Pin SOT-23, Extended Temperature, Tape and Reel; Manufacturer: Microchip; PartNumber: MCP9700AT-E/TT; DatasheetVersion: revE, Apr-2009; PackageVersion: revBB, Aug-2009; PackageReference: SOT-23-TT3; PackageDescription: 3-Lead Plastic Small Outline Transistor (TT) [SOT-23]; Supplier 1: Digi-Key; Supplier Part Number 1: MCP9700AT-E/TTTR-ND; Supplier 2: Digi-Key; Supplier Part Number 2: MCP9700AT-E/TTCT-ND; Supplier 3: Digi-Key; Supplier Part Number 3: MCP9700AT-E/TTDKR-ND; Supplier 4: Farnell; Supplier Part Number 4: 1605577RL; Supplier 5: Farnell; Supplier Part Number 5: 1605577; Supplier 6: Newark; Supplier Part Number 6: 84R5199; Supplier 7: Newark; Supplier Part Number 7: 17M0677; Supplier 8: Mouser; Supplier Part Number 8: 579-MCP9700AT-E/TT; Mounting Technology: Surface Mount; Code_IPC: SOT23-3; ComponentLink1Description: Manufacturer URL; ComponentLink1URL: http://www.microchip.com/; ComponentLink2Description: Datasheet; ComponentLink2URL: http://ww1.microchip.com/downloads/en/DeviceDoc/21942e.pdf; ComponentLink3Description: Package Specification; ComponentLink3URL: http://www.microchip.com/stellent/groups/techpub_sg/documents/packagingspec/en012702.pdf
footprint SOT-23-TT3_N (SOT23, 3-Leads, Body 2.9x1.3mm, Pitch 0.95mm, Lead Span 2.4mm, IPC Medium Density)
footprint SOT-23-TT3_L (SOT23, 3-Leads, Body 2.9x1.3mm, Pitch 0.95mm, Lead Span 2.4mm, IPC High Density)
footprint SOT-23-TT3_M (SOT23, 3-Leads, Body 2.9x1.3mm, Pitch 0.95mm, Lead Span 2.4mm, IPC Low Density)
pins: 1 VDD (power), 2 VOUT (power), 3 GND (power)

## MCP9700T-E/LT
designator U?
Low-Power Linear Active Thermistor IC, 5-Pin SC-70, Extended Temperature, Tape and Reel; Manufacturer: Microchip; PartNumber: MCP9700T-E/LT; DatasheetVersion: revE, Apr-2009; PackageVersion: revBB, Aug-2009; PackageReference: SC70-LT5; PackageDescription: 5-Lead Plastic Small Outline Transistor (LT) [SC70]; Supplier 1: Digi-Key; Supplier Part Number 1: MCP9700T-E/LTTR-ND; Supplier 2: Digi-Key; Supplier Part Number 2: MCP9700T-E/LTCT-ND; Supplier 3: Digi-Key; Supplier Part Number 3: MCP9700T-E/LTDKR-ND; Supplier 4: Farnell; Supplier Part Number 4: 1084621RL; Supplier 5: Farnell; Supplier Part Number 5: 1084621; Supplier 6: Newark; Supplier Part Number 6: 08J8798; Supplier 7: Mouser; Supplier Part Number 7: 579-MCP9700T-E/LT; Mounting Technology: Surface Mount; Code_IPC: SOT353-5; ComponentLink1Description: Manufacturer URL; ComponentLink1URL: http://www.microchip.com/; ComponentLink2Description: Datasheet; ComponentLink2URL: http://ww1.microchip.com/downloads/en/DeviceDoc/21942e.pdf; ComponentLink3Description: Package Specification; ComponentLink3URL: http://www.microchip.com/stellent/groups/techpub_sg/documents/packagingspec/en012702.pdf
footprint SC70-LT5_N (SOT353, 5-Leads, Body 2x1.3mm, Pitch 0.65mm, Lead Span 2.1mm, IPC Medium Density)
footprint SC70-LT5_L (SOT353, 5-Leads, Body 2x1.3mm, Pitch 0.65mm, Lead Span 2.1mm, IPC High Density)
footprint SC70-LT5_M (SOT353, 5-Leads, Body 2x1.3mm, Pitch 0.65mm, Lead Span 2.1mm, IPC Low Density)
pins: 1 NC, 2 GND (power), 3 VOUT (power), 4 VDD (power), 5 NC

## MCP9700T-E/TT
designator U?
Low-Power Linear Active Thermistor IC, 3-Pin SOT-23, Extended Temperature, Tape and Reel; Manufacturer: Microchip; PartNumber: MCP9700T-E/TT; DatasheetVersion: revE, Apr-2009; PackageVersion: revBB, Aug-2009; PackageReference: SOT-23-TT3; PackageDescription: 3-Lead Plastic Small Outline Transistor (TT) [SOT-23]; Supplier 1: Digi-Key; Supplier Part Number 1: MCP9700T-E/TTTR-ND; Supplier 2: Digi-Key; Supplier Part Number 2: MCP9700T-E/TTCT-ND; Supplier 3: Digi-Key; Supplier Part Number 3: MCP9700T-E/TTDKR-ND; Supplier 4: Farnell; Supplier Part Number 4: 1627188RL; Supplier 5: Farnell; Supplier Part Number 5: 1627188; Supplier 6: Newark; Supplier Part Number 6: 84R5200; Supplier 7: Newark; Supplier Part Number 7: 17M0678; Supplier 8: Mouser; Supplier Part Number 8: 579-MCP9700T-E/TT; Mounting Technology: Surface Mount; Code_IPC: SOT23-3; ComponentLink1Description: Manufacturer URL; ComponentLink1URL: http://www.microchip.com/; ComponentLink2Description: Datasheet; ComponentLink2URL: http://ww1.microchip.com/downloads/en/DeviceDoc/21942e.pdf; ComponentLink3Description: Package Specification; ComponentLink3URL: http://www.microchip.com/stellent/groups/techpub_sg/documents/packagingspec/en012702.pdf
footprint SOT-23-TT3_N (SOT23, 3-Leads, Body 2.9x1.3mm, Pitch 0.95mm, Lead Span 2.4mm, IPC Medium Density)
footprint SOT-23-TT3_L (SOT23, 3-Leads, Body 2.9x1.3mm, Pitch 0.95mm, Lead Span 2.4mm, IPC High Density)
footprint SOT-23-TT3_M (SOT23, 3-Leads, Body 2.9x1.3mm, Pitch 0.95mm, Lead Span 2.4mm, IPC Low Density)
pins: 1 VDD (power), 2 VOUT (power), 3 GND (power)

## MCP9700T-H/LT
designator U?
Low-Power Linear Active Thermistor IC, 5-Pin SC-70, High Temperature, Tape and Reel; Manufacturer: Microchip; PartNumber: MCP9700T-H/LT; DatasheetVersion: revE, Apr-2009; PackageVersion: revBB, Aug-2009; PackageReference: SC70-LT5; PackageDescription: 5-Lead Plastic Small Outline Transistor (LT) [SC70]; Supplier 1: Digi-Key; Supplier Part Number 1: MCP9700T-H/LT-ND; Supplier 2: Farnell; Supplier Part Number 2: 1825049; Supplier 3: Newark; Supplier Part Number 3: 12T7777; Supplier 4: Newark; Supplier Part Number 4: 73R8375; Supplier 5: Mouser; Supplier Part Number 5: 579-MCP9700THLT; Mounting Technology: Surface Mount; Code_IPC: SOT353-5; ComponentLink1Description: Manufacturer URL; ComponentLink1URL: http://www.microchip.com/; ComponentLink2Description: Datasheet; ComponentLink2URL: http://ww1.microchip.com/downloads/en/DeviceDoc/21942e.pdf; ComponentLink3Description: Package Specification; ComponentLink3URL: http://www.microchip.com/stellent/groups/techpub_sg/documents/packagingspec/en012702.pdf
footprint SC70-LT5_N (SOT353, 5-Leads, Body 2x1.3mm, Pitch 0.65mm, Lead Span 2.1mm, IPC Medium Density)
footprint SC70-LT5_L (SOT353, 5-Leads, Body 2x1.3mm, Pitch 0.65mm, Lead Span 2.1mm, IPC High Density)
footprint SC70-LT5_M (SOT353, 5-Leads, Body 2x1.3mm, Pitch 0.65mm, Lead Span 2.1mm, IPC Low Density)
pins: 1 NC, 2 GND (power), 3 VOUT (power), 4 VDD (power), 5 NC

## MCP9701-E/TO
designator U?
Low-Power Linear Active Thermistor IC, 3-Pin TO-92, Extended Temperature; Manufacturer: Microchip; PartNumber: MCP9701-E/TO; DatasheetVersion: revE, Apr-2009; PackageVersion: revBB, Aug-2009; PackageReference: TO-92-TO3; PackageDescription: 3-Lead Plastic Transistor Outline (TO) [TO-92]; Supplier 1: Digi-Key; Supplier Part Number 1: MCP9701-E/TO-ND; Supplier 2: Farnell; Supplier Part Number 2: 1439483; Supplier 3: Newark; Supplier Part Number 3: 17M0679; Supplier 4: Mouser; Supplier Part Number 4: 579-MCP9701-E/TO; Mounting Technology: Through Hole; ComponentLink1Description: Manufacturer URL; ComponentLink1URL: http://www.microchip.com/; ComponentLink2Description: Datasheet; ComponentLink2URL: http://ww1.microchip.com/downloads/en/DeviceDoc/21942e.pdf; ComponentLink3Description: Package Specification; ComponentLink3URL: http://www.microchip.com/stellent/groups/techpub_sg/documents/packagingspec/en012702.pdf
footprint TO-92-TO3 (TO, Flat Index; 3 In-Line, Axial Leads; Body Dia. 4.8mm; Leads 0.56 x 0.53 mm (max))
pins: 1 VDD (power), 2 VOUT (power), 3 GND (power)

## MCP9701A-E/TO
designator U?
Low-Power Linear Active Thermistor IC, 3-Pin TO-92, Extended Temperature; Manufacturer: Microchip; PartNumber: MCP9701A-E/TO; DatasheetVersion: revE, Apr-2009; PackageVersion: revBB, Aug-2009; PackageReference: TO-92-TO3; PackageDescription: 3-Lead Plastic Transistor Outline (TO) [TO-92]; Supplier 1: Digi-Key; Supplier Part Number 1: MCP9701A-E/TO-ND; Supplier 2: Farnell; Supplier Part Number 2: 1439484; Supplier 3: Newark; Supplier Part Number 3: 17M0680; Supplier 4: Mouser; Supplier Part Number 4: 579-MCP9701A-E/TO; Mounting Technology: Through Hole; ComponentLink1Description: Manufacturer URL; ComponentLink1URL: http://www.microchip.com/; ComponentLink2Description: Datasheet; ComponentLink2URL: http://ww1.microchip.com/downloads/en/DeviceDoc/21942e.pdf; ComponentLink3Description: Package Specification; ComponentLink3URL: http://www.microchip.com/stellent/groups/techpub_sg/documents/packagingspec/en012702.pdf
footprint TO-92-TO3 (TO, Flat Index; 3 In-Line, Axial Leads; Body Dia. 4.8mm; Leads 0.56 x 0.53 mm (max))
pins: 1 VDD (power), 2 VOUT (power), 3 GND (power)

## MCP9701AT-E/LT
designator U?
Low-Power Linear Active Thermistor IC, 5-Pin SC-70, Extended Temperature, Tape and Reel; Manufacturer: Microchip; PartNumber: MCP9701AT-E/LT; DatasheetVersion: revE, Apr-2009; PackageVersion: revBB, Aug-2009; PackageReference: SC70-LT5; PackageDescription: 5-Lead Plastic Small Outline Transistor (LT) [SC70]; Supplier 1: Digi-Key; Supplier Part Number 1: MCP9701AT-E/LTTR-ND; Supplier 2: Digi-Key; Supplier Part Number 2: MCP9701AT-E/LTCT-ND; Supplier 3: Digi-Key; Supplier Part Number 3: MCP9701AT-E/LTDKR-ND; Supplier 4: Farnell; Supplier Part Number 4: 1627203RL; Supplier 5: Farnell; Supplier Part Number 5: 1627203; Supplier 6: Newark; Supplier Part Number 6: 88K5692; Supplier 7: Mouser; Supplier Part Number 7: 579-MCP9701AT-E/LT; Mounting Technology: Surface Mount; Code_IPC: SOT353-5; ComponentLink1Description: Manufacturer URL; ComponentLink1URL: http://www.microchip.com/; ComponentLink2Description: Datasheet; ComponentLink2URL: http://ww1.microchip.com/downloads/en/DeviceDoc/21942e.pdf; ComponentLink3Description: Package Specification; ComponentLink3URL: http://www.microchip.com/stellent/groups/techpub_sg/documents/packagingspec/en012702.pdf
footprint SC70-LT5_N (SOT353, 5-Leads, Body 2x1.3mm, Pitch 0.65mm, Lead Span 2.1mm, IPC Medium Density)
footprint SC70-LT5_L (SOT353, 5-Leads, Body 2x1.3mm, Pitch 0.65mm, Lead Span 2.1mm, IPC High Density)
footprint SC70-LT5_M (SOT353, 5-Leads, Body 2x1.3mm, Pitch 0.65mm, Lead Span 2.1mm, IPC Low Density)
pins: 1 NC, 2 GND (power), 3 VOUT (power), 4 VDD (power), 5 NC

## MCP9701AT-E/TT
designator U?
Low-Power Linear Active Thermistor IC, 3-Pin SOT-23, Extended Temperature, Tape and Reel; Manufacturer: Microchip; PartNumber: MCP9701AT-E/TT; DatasheetVersion: revE, Apr-2009; PackageVersion: revBB, Aug-2009; PackageReference: SOT-23-TT3; PackageDescription: 3-Lead Plastic Small Outline Transistor (TT) [SOT-23]; Supplier 1: Digi-Key; Supplier Part Number 1: MCP9701AT-E/TTTR-ND; Supplier 2: Digi-Key; Supplier Part Number 2: MCP9701AT-E/TTCT-ND; Supplier 3: Digi-Key; Supplier Part Number 3: MCP9701AT-E/TTDKR-ND; Supplier 4: Farnell; Supplier Part Number 4: 1834864; Supplier 5: Farnell; Supplier Part Number 5: 1834864RL; Supplier 6: Newark; Supplier Part Number 6: 84R5201; Supplier 7: Mouser; Supplier Part Number 7: 579-MCP9701AT-E/TT; Mounting Technology: Surface Mount; Code_IPC: SOT23-3; ComponentLink1Description: Manufacturer URL; ComponentLink1URL: http://www.microchip.com/; ComponentLink2Description: Datasheet; ComponentLink2URL: http://ww1.microchip.com/downloads/en/DeviceDoc/21942e.pdf; ComponentLink3Description: Package Specification; ComponentLink3URL: http://www.microchip.com/stellent/groups/techpub_sg/documents/packagingspec/en012702.pdf
footprint SOT-23-TT3_N (SOT23, 3-Leads, Body 2.9x1.3mm, Pitch 0.95mm, Lead Span 2.4mm, IPC Medium Density)
footprint SOT-23-TT3_L (SOT23, 3-Leads, Body 2.9x1.3mm, Pitch 0.95mm, Lead Span 2.4mm, IPC High Density)
footprint SOT-23-TT3_M (SOT23, 3-Leads, Body 2.9x1.3mm, Pitch 0.95mm, Lead Span 2.4mm, IPC Low Density)
pins: 1 VDD (power), 2 VOUT (power), 3 GND (power)

## MCP9701T-E/LT
designator U?
Low-Power Linear Active Thermistor IC, 5-Pin SC-70, Extended Temperature, Tape and Reel; Manufacturer: Microchip; PartNumber: MCP9701T-E/LT; DatasheetVersion: revE, Apr-2009; PackageVersion: revBB, Aug-2009; PackageReference: SC70-LT5; PackageDescription: 5-Lead Plastic Small Outline Transistor (LT) [SC70]; Supplier 1: Digi-Key; Supplier Part Number 1: MCP9701T-E/LTTR-ND; Supplier 2: Digi-Key; Supplier Part Number 2: MCP9701T-E/LTCT-ND; Supplier 3: Digi-Key; Supplier Part Number 3: MCP9701T-E/LTDKR-ND; Supplier 4: Farnell; Supplier Part Number 4: 1084622; Supplier 5: Farnell; Supplier Part Number 5: 1084622RL; Supplier 6: Newark; Supplier Part Number 6: 08J8799; Supplier 7: Mouser; Supplier Part Number 7: 579-MCP9701T-E/LT; Mounting Technology: Surface Mount; Code_IPC: SOT353-5; ComponentLink1Description: Manufacturer URL; ComponentLink1URL: http://www.microchip.com/; ComponentLink2Description: Datasheet; ComponentLink2URL: http://ww1.microchip.com/downloads/en/DeviceDoc/21942e.pdf; ComponentLink3Description: Package Specification; ComponentLink3URL: http://www.microchip.com/stellent/groups/techpub_sg/documents/packagingspec/en012702.pdf
footprint SC70-LT5_N (SOT353, 5-Leads, Body 2x1.3mm, Pitch 0.65mm, Lead Span 2.1mm, IPC Medium Density)
footprint SC70-LT5_L (SOT353, 5-Leads, Body 2x1.3mm, Pitch 0.65mm, Lead Span 2.1mm, IPC High Density)
footprint SC70-LT5_M (SOT353, 5-Leads, Body 2x1.3mm, Pitch 0.65mm, Lead Span 2.1mm, IPC Low Density)
pins: 1 NC, 2 GND (power), 3 VOUT (power), 4 VDD (power), 5 NC

## MCP9701T-E/TT
designator U?
Low-Power Linear Active Thermistor IC, 3-Pin SOT-23, Extended Temperature, Tape and Reel; Manufacturer: Microchip; PartNumber: MCP9701T-E/TT; DatasheetVersion: revE, Apr-2009; PackageVersion: revBB, Aug-2009; PackageReference: SOT-23-TT3; PackageDescription: 3-Lead Plastic Small Outline Transistor (TT) [SOT-23]; Supplier 1: Digi-Key; Supplier Part Number 1: MCP9701T-E/TTTR-ND; Supplier 2: Digi-Key; Supplier Part Number 2: MCP9701T-E/TTCT-ND; Supplier 3: Digi-Key; Supplier Part Number 3: MCP9701T-E/TTDKR-ND; Supplier 4: Farnell; Supplier Part Number 4: 1834865; Supplier 5: Newark; Supplier Part Number 5: 58T3403; Supplier 6: Mouser; Supplier Part Number 6: 579-MCP9701T-E/TT; Mounting Technology: Surface Mount; Code_IPC: SOT23-3; ComponentLink1Description: Manufacturer URL; ComponentLink1URL: http://www.microchip.com/; ComponentLink2Description: Datasheet; ComponentLink2URL: http://ww1.microchip.com/downloads/en/DeviceDoc/21942e.pdf; ComponentLink3Description: Package Specification; ComponentLink3URL: http://www.microchip.com/stellent/groups/techpub_sg/documents/packagingspec/en012702.pdf
footprint SOT-23-TT3_N (SOT23, 3-Leads, Body 2.9x1.3mm, Pitch 0.95mm, Lead Span 2.4mm, IPC Medium Density)
footprint SOT-23-TT3_L (SOT23, 3-Leads, Body 2.9x1.3mm, Pitch 0.95mm, Lead Span 2.4mm, IPC High Density)
footprint SOT-23-TT3_M (SOT23, 3-Leads, Body 2.9x1.3mm, Pitch 0.95mm, Lead Span 2.4mm, IPC Low Density)
pins: 1 VDD (power), 2 VOUT (power), 3 GND (power)